# Altium footprint library J16-TESTBOARD.PcbLib: 36 footprints (part 1 of 3)
Each footprint in its own frame and in the unit in brackets; x right, y up, seen from the top. Pads: shape width x height; smd on the part's side, far side on the other; paste and mask are expansions set on the pad; w line width, h text height; cw(c..) or ccw(c..) is an arc to the next point about the centre after c.
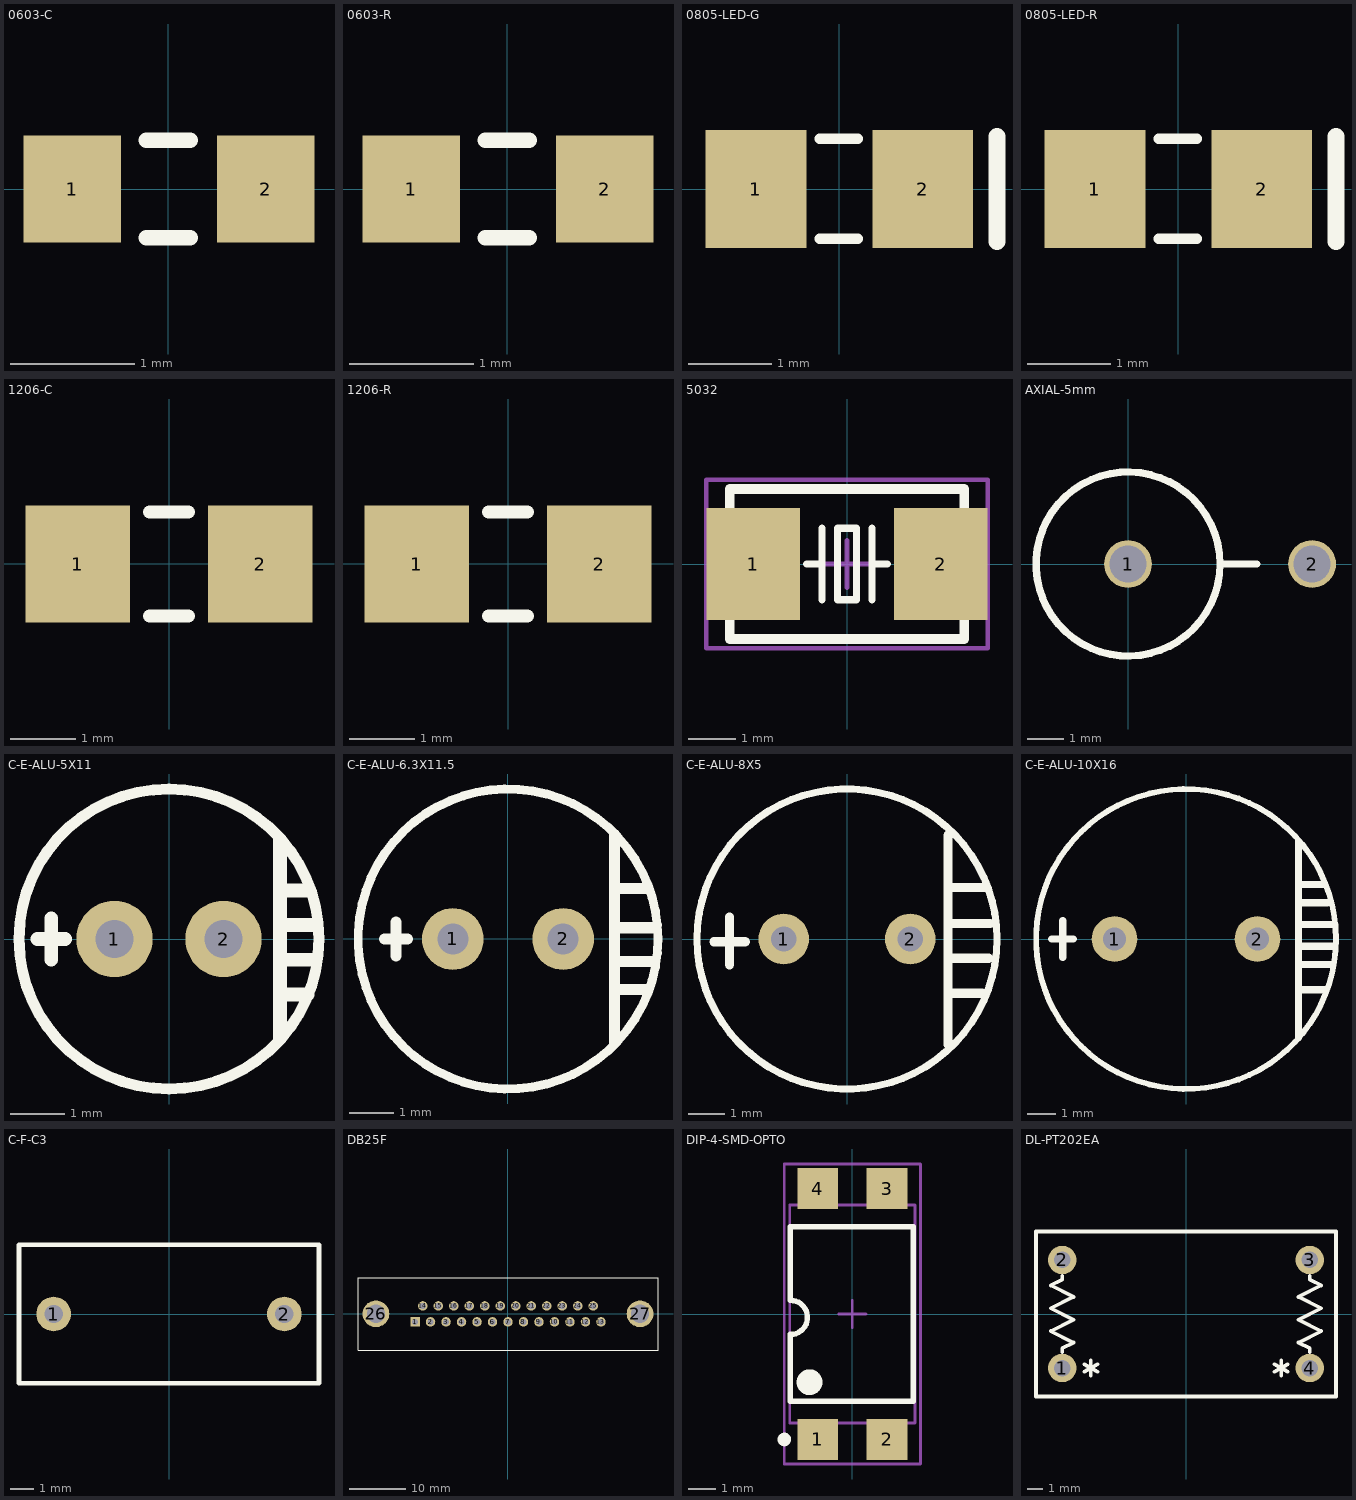
[diagram p0: the footprints below, top view; thin cyan lines are the x and y axes]

## 0603-C [mil] "0603, Body 1.6 x 0.8 mm (LxW typ)"
pads (2):
  rect 31x34 smd: 1(-30.5,0) 2(31,0)
Top Overlay:
  lines w5: -7,-15.5 7,-15.5 ; -7,15.5 7,15.5
3D body: height 31.5, standoff 0, extent -31,-15.75 31.99,15.75

## 0603-R [mil] "0603, Body 1.6 x 0.8 mm (LxW typ)"
pads (2):
  rect 31x34 smd: 1(-30.5,0) 2(31,0)
Top Overlay:
  lines w5: -7,-15.5 7,-15.5 ; -7,15.5 7,15.5
3D body: height 15.75, standoff 0, extent -31,-15.75 31.99,15.75

## 0805-LED-G [mil] "0805, Body 2.0 x 1.3 mm (LxW typ)"
height 43.31
pads (2):
  rect 48x56 smd: 1(-39.69,0) 2(39.69,0)
Top Overlay:
  lines w5: -9.31,-23.62 8.69,-23.62 ; -9.31,24 8.69,24
  lines w7.87: 75,-25 75,25
3D body: height 43.31, standoff 0, extent -39.74,-24.61 39.79,24.6

## 0805-LED-R [mil] "0805, Body 2.0 x 1.3 mm (LxW typ)"
height 43.31
pads (2):
  rect 48x56 smd: 1(-39.69,0) 2(39.69,0)
Top Overlay:
  lines w5: -9.31,-23.62 8.69,-23.62 ; -9.31,24 8.69,24
  lines w7.87: 75,-25 75,25
3D body: height 43.31, standoff 0, extent -39.74,-24.61 39.79,24.6

## 1206-C [mm] "Body 3.2 x 1.6 mm (LxW typ)"
height 2.54
pads (2):
  rect 1.6x1.8 smd: 1(-1.4,0) 2(1.4,0)
Top Overlay:
  lines w0.2: -0.3,-0.8 0.3,-0.8 ; -0.3,0.8 0.3,0.8
3D body: height 1, standoff 0, extent -1.6,-0.8 1.6,0.8

## 1206-R [mm] "Body 3.2 x 1.6 mm (LxW typ)"
height 0.6
pads (2):
  rect 1.6x1.8 smd: 1(-1.4,0) 2(1.4,0)
Top Overlay:
  lines w0.2: -0.3,-0.8 0.3,-0.8 ; -0.3,0.8 0.3,0.8
3D body: height 0.6, standoff 0, extent -1.6,-0.8 1.6,0.8

## 5032 [mm] "5032; Body 5.0 x 3.2 x 1.2 mm"
height 1.2
pads (2):
  rect 2x2.4 smd: 1(-2,0) 2(2,0)
Top Overlay:
  lines w0.152: -0.864,0 -0.533,0 ; -0.533,-0.762 -0.533,0 ; -0.533,0.762 -0.533,0 ; 0.533,-0.762 0.533,0 ; 0.533,0.762 0.533,0 ; 0.864,0 0.533,0 ; -0.203,-0.762 -0.203,0.762 0.203,0.762 0.203,-0.762 -0.203,-0.762
  lines w0.203: -2.5,-1.6 2.5,-1.6 2.5,1.6 -2.5,1.6 -2.5,-1.6
Mechanical 13:
  lines w0.1: -2.5,-1.6 -2.5,1.6 2.5,1.6 2.5,-1.6 -2.5,-1.6
Mechanical 15:
  lines w0.1: -0.5,0 0.5,0 ; 0,-0.5 0,0.5 ; -3,-1.8 -3,1.8 3,1.8 3,-1.8 -3,-1.8
3D body: height 1.3, standoff 0, extent -2.5,-1.6 2.5,1.6

## AXIAL-5mm [mm] "Resistor; 2 Leads"
height 16
pads (2):
  round 1.3 hole 1: 1(0,0) 2(5,0)
Top Overlay:
  circle w0.2: c0,0 r2.5
  lines w0.2: 2.5,0 3.5,0

## C-E-ALU-5X11 [mm] "D*P*H:5*2.0*11, d=0.7"
height 11
pads (2):
  round 1.4 hole 0.7: 1(-1,0) 2(1,0)
Top Overlay:
  circle w0.2: c0,0 r2.75
  lines w0.254: -2.413,0 -1.905,0 ; -2.159,-0.381 -2.159,0.381 ; 2.032,-1.8 2.032,1.8 ; 2.032,-1.016 2.54,-1.016 ; 2.032,-0.381 2.667,-0.381 ; 2.032,0.254 2.642,0.254 ; 2.032,0.889 2.54,0.889

## C-E-ALU-6.3X11.5 [mm] "D*P*H:6.3*2.5*11.5, d=0.7"
height 11.5
pads (2):
  round 1.4 hole 0.7: 1(-1.25,0) 2(1.25,0)
Top Overlay:
  circle w0.2: c0,0 r3.4
  lines w0.254: -2.794,0 -2.286,0 ; -2.54,-0.381 -2.54,0.381 ; 2.413,-2.337 2.413,2.362 ; 2.413,-1.143 3.175,-1.143 ; 2.413,-0.508 3.302,-0.508 ; 2.438,0.254 3.302,0.254 ; 2.54,1.143 3.175,1.143

## C-E-ALU-8X5 [mm] "D*P*H:8*3.5*5, d=0.7"
height 6
pads (2):
  round 1.4 hole 0.7: 1(-1.75,0) 2(1.75,0)
Top Overlay:
  circle w0.2: c0,0 r4.15
  lines w0.254: -3.68,-0.076 -2.817,-0.076 ; -3.249,-0.711 -3.249,0.61 ; 2.797,-2.921 2.797,2.87 ; 2.797,-1.499 3.736,-1.499 ; 2.797,-0.533 3.914,-0.533 ; 2.797,0.432 3.965,0.432 ; 2.797,1.422 3.787,1.422

## C-E-ALU-10X16 [mm] "D*P*H:10*5*16, d=0.8"
height 16
pads (2):
  round 1.6 hole 0.8: 1(-2.5,0) 2(2.5,0)
Top Overlay:
  circle w0.2: c0,0 r5.25
  lines w0.254: -4.699,0 -3.937,0 ; -4.318,-0.635 -4.318,0.635 ; 3.937,-3.454 3.937,3.429 ; 3.937,-1.778 4.826,-1.778 ; 3.937,-0.889 5.08,-0.889 ; 3.937,-0.254 5.207,-0.254 ; 3.937,0.508 5.207,0.508 ; 3.937,1.27 4.953,1.27 ; 3.937,1.905 4.826,1.905
3D body: height 16.53, standoff -3.74, extent -5.025,-5.025 5.025,5.025

## C-F-C3 [mm] "C3, Body 13x6mm, Pitch 10mm"
height 12
pads (2):
  round 1.5 hole 0.8: 1(-5,0) 2(5,0)
Top Overlay:
  lines w0.2: -6.5,-3 6.5,-3 6.5,3 -6.5,3 -6.5,-3

## DB25F [mm] "Connector; D Subminiature; 25 Position; Right Angle; Pitch 1.385 mm"
height 12.93
pads (27):
  rect 1.69x1.69 hole 1.09: 1(-16.566,-1.42)
  round 1.69 hole 1.09: 2(-13.805,-1.42) 3(-11.044,-1.42) 4(-8.283,-1.42) 5(-5.522,-1.42) 6(-2.761,-1.42) 7(0,-1.42) 8(2.761,-1.42) 9(5.522,-1.42) 10(8.283,-1.42) 11(11.044,-1.42) 12(13.805,-1.42) 13(16.566,-1.42) 14(-15.185,1.42) 15(-12.424,1.42) 16(-9.663,1.42) 17(-6.902,1.42) 18(-4.141,1.42) 19(-1.38,1.42) 20(1.381,1.42) 21(4.142,1.42) 22(6.903,1.42) 23(9.664,1.42) 24(12.425,1.42) 25(15.186,1.42)
  round 4.76 hole 3.26: 26(-23.526,0) 27(23.526,0)
Top Overlay:
  lines w0.203: -26.726,-6.5 26.726,-6.5 26.726,6.454 -26.726,6.454 -26.726,-6.5

## DIP-4-SMD-OPTO [mm] "DIP-4-SMD-OPTO; 4 Leads; Row Spacing 9mm; Pitch 2.54 mm"
height 4.57
pads (4):
  rect 1.5x1.5 smd: 1(-1.27,-4.6) 2(1.27,-4.6) 3(1.27,4.6) 4(-1.27,4.6)
Top Overlay:
  circle w0.25: c-2.495,-4.6 r0.125
  circle w0.5: c-1.57,-2.5 r0.224
  lines w0.2: -2.27,-0.8 -2.27,-3.2 2.23,-3.2 2.23,3.2 -2.27,3.2 -2.27,0.5 cw(c-2.27,-0.125) -2.27,-0.75
Mechanical 13:
  lines w0.1: -2.3,-4 -2.3,4 2.3,4 2.3,-4 -2.3,-4
Mechanical 15:
  lines w0.1: -0.5,0 0.5,0 ; 0,-0.5 0,0.5 ; -2.5,-5.5 -2.5,5.5 2.5,5.5 2.5,-5.5 -2.5,-5.5
3D body: height 3.85, standoff 0, extent -2.29,-5 2.29,5

## DL-PT202EA [mm]
height 25
pads (4):
  round 1.9 hole 1.1: 1(-8.25,-3.6) 2(-8.25,3.6) 3(8.25,3.6) 4(8.25,-3.6)
Top Overlay:
  lines w0.254: -8.255,-2.54 -8.255,-2.286 -7.493,-1.905 -9.017,-1.143 -7.493,-0.381 -9.017,0.381 -7.493,1.143 -9.017,1.905 -8.255,2.286 -8.255,2.54 ; -6.785,-3.854 -5.905,-3.346 ; -6.785,-3.346 -5.905,-3.854 ; -6.345,-4.108 -6.345,-3.092 ; 5.905,-3.854 6.785,-3.346 ; 5.905,-3.346 6.785,-3.854 ; 6.345,-4.108 6.345,-3.092 ; 8.255,-2.54 8.255,-2.286 7.493,-1.905 9.017,-1.143 7.493,-0.381 9.017,0.381 7.493,1.143 9.017,1.905 8.255,2.286 8.255,2.54 ; -10,-5.5 -10,5.5 10,5.5 10,-5.5 -10,-5.5
3D body: height 25, standoff 0, extent -10,-5.5 10,5.5